# Altium footprint library CSD0910 SERIES.PcbLib: 1 footprints
Each footprint in its own frame and in the unit in brackets; x right, y up, seen from the top. Pads: shape width x height; smd on the part's side, far side on the other; paste and mask are expansions set on the pad; w line width, h text height; cw(c..) or ccw(c..) is an arc to the next point about the centre after c.
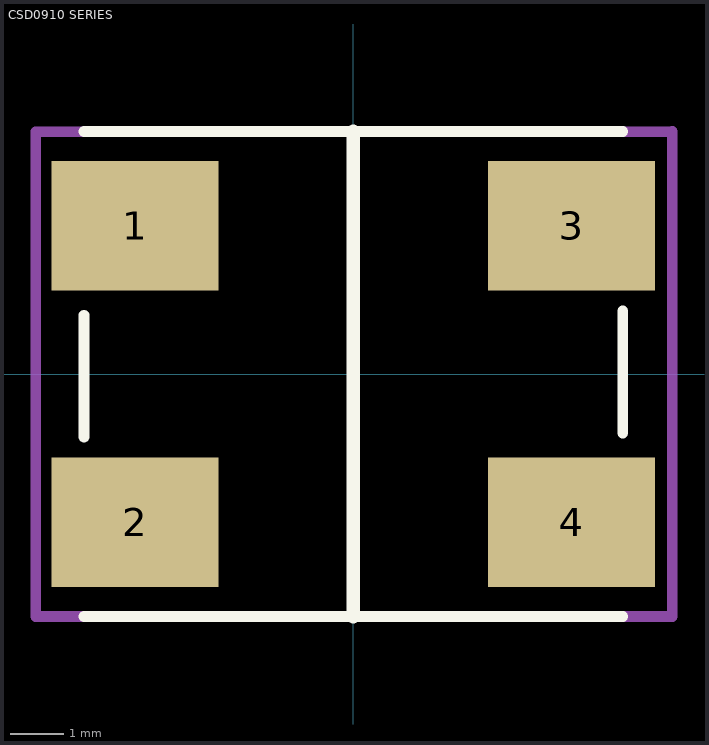
[diagram p0: the footprint, top view; thin cyan lines are the x and y axes]

## CSD0910 SERIES [mm] "Dual Coil Class D SMD Inductor"
height 10.5
pads (4):
  rect 3.1x2.4 smd: 1(-4.05,2.75) 2(-4.05,-2.75) 3(4.05,2.75) 4(4.05,-2.75)
Top Overlay:
  lines w0.2: -5,-4.5 5,-4.5 ; -5,-1.168 -5,1.092 ; -5,4.5 5,4.5 ; 5,-1.092 5,1.168
  lines w0.254: 0,-4.5 0,4.5
Mechanical 15:
  lines w0.2: -5.893,-4.5 5.918,-4.5 5.918,4.501 -5.893,4.495 -5.893,-4.5
3D body: height 10.5, standoff 0, extent -5,-4.5 5,4.5